# EAGLE library part 00SPEEDY_EFD15_SMD_10PIN (library Wurth Electronics Midcom Inc V1-0)
Package Style: Speedy EFD15 Mounting: SMD Pins: 10 pins Bobbin: 070-2644 Best pinouts for production vary per application. Please contact Wurth Electronics Midcom, Inc. for assistance with your custom design. Website: Wurth Electronics Midcom <http://www.we-online.com/midcom> Contact us Wurth Electronics Midcom, Inc. 121 Airport Dr. Watertown, SD 57201 Phone: (605) 886-4385 Fax: (605) 886-4486 E-Mail: midcom@we-online.com
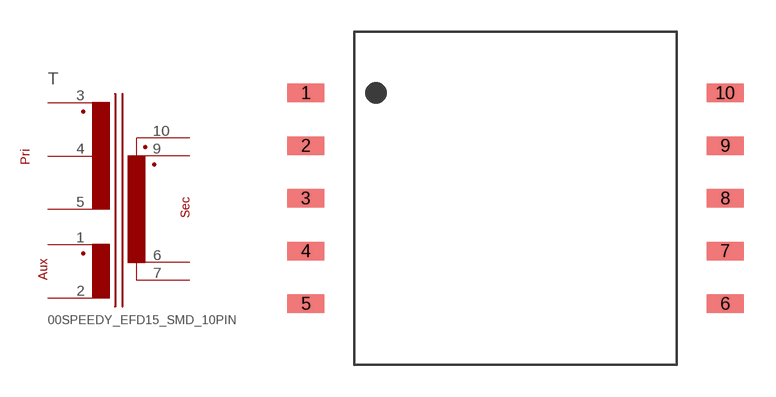
[diagram p113: symbol with the pads of 00SPEEDY_EFD15_SMD_10PIN; footprint 00SPEEDY_EFD15_SMD_10PIN]

Designator prefix T

## 00SPEEDY_EFD15_SMD_10PIN  [00SPEEDY_EFD15_SMD_10PIN]
1  4  pas
2  5  pas
3  1  pas
4  2  pas
5  3  pas
6  9  pas
7  6  pas
9  8  pas
10  7  pas

## Footprint 00SPEEDY_EFD15_SMD_10PIN (pad centres in mm)
Package Style: Speedy EFD15 Mounting: SMD Pins: 10 pins Bobbin: 070-2644
smd 1.753 x 0.864: 1 -9.893,4.978; 2 -9.893,2.489; 3 -9.893,0; 4 -9.893,-2.489; 5 -9.893,-4.978; 6 9.893,-4.978; 7 9.893,-2.489; 8 9.893,0; 9 9.893,2.489; 10 9.893,4.978